# Altium integrated library Capacitor 1210.IntLib: 8 symbols
Pins are listed as number, name and electrical type; pins without a type are passive.

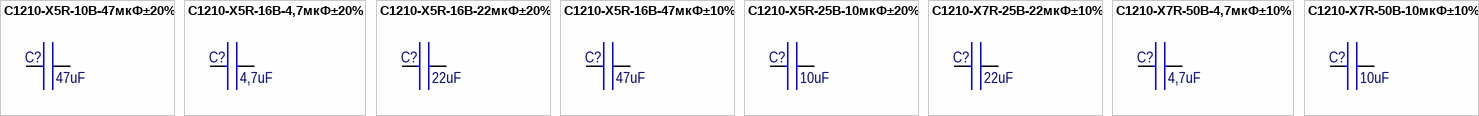
[diagram p0: symbols C1210-X5R-10В-47мкФ±20% to C1210-X7R-50В-10мкФ±10%]

## C1210-X5R-10В-47мкФ±20%
designator C?, comment value 47uF  (hidden comment: Ch 1210)
CAP CER 47UF 10V 20% X5R 1210; Manufacturer: Murata Electronics; ManufacturerPartNumber: GRM32ER61A476M; Group: 9170; RegulationProcent: 10; TypeName: Конденсатор; Published: 10.07.2014; Publisher: Stanchik A; Distributor: Digi-Key; DistributorPartNumber: 490-6537-6-ND; LatestRevisionDate: 10.07.2014; Package: 3225 [1210]; Library: Capacitor 1210
footprint CAPC3225NX25  [1210] (Chip Capacitor, Body 3.2x2.5mm, IPC Medium Density)
3D model CAPC3216 (PCB3D Model)
pins: 1, 2

## C1210-X5R-16В-4,7мкФ±20%
designator C?, comment value 4,7uF  (hidden comment: Ch 1210)
CAP CER 4.7UF 16V 20% X5R 1210; Manufacturer: Taiyo Yuden; ManufacturerPartNumber: EMK325BJ475MNHT; Group: 9170; RegulationProcent: 10; TypeName: Конденсатор; Published: 10.07.2014; Publisher: Stanchik A; Distributor: Digi-Key; DistributorPartNumber: 587-3339-6-ND; LatestRevisionDate: 10.07.2014; Package: 3225 [1210]; Library: Capacitor 1210
footprint CAPC3225N  [1210] (Chip Capacitor, Body 3.2x2.5mm, IPC Medium Density)
3D model CAPC3216 (PCB3D Model)
pins: 1, 2

## C1210-X5R-16В-22мкФ±20%
designator C?, comment value 22uF  (hidden comment: Ch 1210)
CAP CER 22UF 16V 20% X5R 1210; Manufacturer: Kemet; ManufacturerPartNumber: C1210C226M4PACTU; Group: 9170; RegulationProcent: 10; TypeName: Конденсатор; Published: 10.07.2014; Publisher: Stanchik A; Distributor: Digi-Key; DistributorPartNumber: 399-8233-6-ND; LatestRevisionDate: 10.07.2014; Package: 3225 [1210]; Library: Capacitor 1210
footprint CAPC3225NX25  [1210] (Chip Capacitor, Body 3.2x2.5mm, IPC Medium Density)
3D model CAPC3216 (PCB3D Model)
pins: 1, 2

## C1210-X5R-16В-47мкФ±10%
designator C?, comment value 47uF  (hidden comment: Ch 1210)
CAP CER 47UF 16V 10% X5R 1210; Manufacturer: Murata Electronics; ManufacturerPartNumber: GRM32ER61C476K; Group: 9170; RegulationProcent: 10; TypeName: Конденсатор; Published: 07.05.2014; Publisher: Stanchik AF; Distributor: Digi-Key; DistributorPartNumber: 490-6538-6-ND; LatestRevisionDate: 07.05.2014; Package: 3225 [1210]; Library: Capacitor 1210
footprint CAPC3225NX25  [1210] (Chip Capacitor, Body 3.2x2.5mm, IPC Medium Density)
3D model CAPC3216 (PCB3D Model)
pins: 1, 2

## C1210-X5R-25В-10мкФ±20%
designator C?, comment value 10uF  (hidden comment: Ch 1210)
Ceramic Chip Capacitor - 1210SMD - Standard; ManufacturerPartNumber: C1210-X5R-25В-10мкФ±20%; Group: 9170; RegulationProcent: 10; TypeName: Конденсатор; Published: 12-02-2012; Publisher: Auchinik DA; Distributor: *; DistributorPartNumber: *; LatestRevisionDate: 12-02-2012; Manufacturer: *; Package: 3225 [1210]; Library: Capacitor 1210
footprint CAPC3225N  [1210] (Chip Capacitor, Body 3.2x2.5mm, IPC Medium Density)
3D model CAPC3216 (PCB3D Model)
pins: 1, 2

## C1210-X7R-25В-22мкФ±10%
designator C?, comment value 22uF  (hidden comment: Ch 1210)
CAP CER 22UF 25V 10% X7R 1210; Manufacturer: Kemet; ManufacturerPartNumber: C1210C226K3RAC7800; Group: 9170; RegulationProcent: 10; TypeName: Конденсатор; Published: 15.11.2016; Publisher: Stanchik A; Distributor: Digi-Key; DistributorPartNumber: 399-11958-1-ND; LatestRevisionDate: 15.11.2016; Package: 3225 [1210]; Library: Capacitor 1210
footprint CAPC3225NX25  [1210] (Chip Capacitor, Body 3.2x2.5mm, IPC Medium Density)
3D model CAPC3216 (PCB3D Model)
pins: 1, 2

## C1210-X7R-50В-4,7мкФ±10%
designator C?, comment value 4,7uF  (hidden comment: Ch 1210)
CAP CER 4.7UF 50V 10% X7R 1210; Manufacturer: Kemet; ManufacturerPartNumber: C1210C475K5RACTU; Group: 9170; RegulationProcent: 10; TypeName: Конденсатор; Published: 15.11.2016; Publisher: Stanchik A; Distributor: Digi-Key; DistributorPartNumber: 399-6785-1-ND; LatestRevisionDate: 15.11.2016; Package: 3225 [1210]; Library: Capacitor 1210
footprint CAPC3225NX25  [1210] (Chip Capacitor, Body 3.2x2.5mm, IPC Medium Density)
3D model CAPC3216 (PCB3D Model)
pins: 1, 2

## C1210-X7R-50В-10мкФ±10%
designator C?, comment value 10uF  (hidden comment: Ch 1210)
CAP CER 10UF 50V 10% X7R 1210; Manufacturer: Kemet; ManufacturerPartNumber: C1210C106K5RACTU; Group: 9170; RegulationProcent: 10; TypeName: Конденсатор; Published: 15.11.2016; Publisher: Stanchik A; Distributor: Digi-Key; DistributorPartNumber: 399-11629-1-ND; LatestRevisionDate: 15.11.2016; Package: 3225 [1210]; Library: Capacitor 1210
footprint CAPC3225NX25  [1210] (Chip Capacitor, Body 3.2x2.5mm, IPC Medium Density)
3D model CAPC3216 (PCB3D Model)
pins: 1, 2